# Altium footprint library CeBOT.PcbLib: 20 footprints (part 2 of 2)
Each footprint in its own frame and in the unit in brackets; x right, y up, seen from the top. Pads: shape width x height; smd on the part's side, far side on the other; paste and mask are expansions set on the pad; w line width, h text height; cw(c..) or ccw(c..) is an arc to the next point about the centre after c.
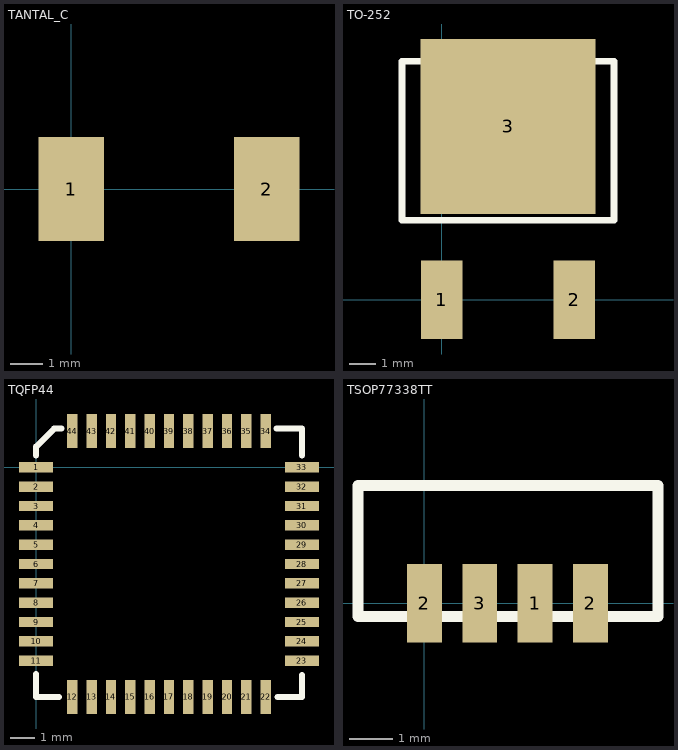
[diagram p1: the footprints below, top view; thin cyan lines are the x and y axes]

## TANTAL_C [mm]
pads (2):
  rect 2x3.2 smd: 1(0,0) 2(6,0)
3D body: height 2.22, standoff -0.47, extent -0.045,-1.6 6.141,1.605

## TO-252 [mm]
pads (3):
  rect 1.6x3 smd: 1(0,0) 2(5.08,0)
  rect 6.7x6.7 smd: 3(2.54,6.65)
Top Overlay:
  lines w0.254: -1.524,3.048 -1.524,9.144 6.604,9.144 6.604,3.048 -1.524,3.048
3D body: height 2.3, standoff -0.01, extent -0.738,-0.151 5.842,9.549

## TQFP44 [mil]
pads (44):
  rect 55.63x17 smd: 1(0,0) 2(0,-31.5) 3(0,-63) 4(0,-94.5) 5(0,-125.98) 6(0,-157.5) 7(0,-189) 8(0,-220.5) 9(0,-252) 10(0,-283.5) 11(0,-315) 23(433.07,-315) 24(433.07,-283.5) 25(433.07,-252) 26(433.07,-220.5) 27(433.07,-189) 28(433.07,-157.5) 29(433.07,-126) 30(433.07,-94.5) 31(433.07,-63) 32(433.07,-31.5) 33(433.07,0)
  rect 17x55.63 smd: 12(59.03,-374.02) 13(90.53,-374.02) 14(122.03,-374.02) 15(153.53,-374.02) 16(185.03,-374.02) 17(216.53,-374.02) 18(248.03,-374.02) 19(279.54,-374.02) 20(311.04,-374.02) 21(342.54,-374.02) 22(374.04,-374.02) 34(374.04,59.05) 35(342.54,59.05) 36(311.04,59.05) 37(279.54,59.05) 38(248.03,59.05) 39(216.53,59.05) 40(185.03,59.05) 41(153.53,59.05) 42(122.03,59.05) 43(90.53,59.05) 44(59.03,59.05)
Top Overlay:
  lines w10: 0,-336.61 0,-374.02 37.4,-374.02 ; 0,19.68 0,33.47 ; 39.37,62.99 29.53,62.99 ; 41.34,62.99 29.53,62.99 ; 391.73,62.99 433.07,62.99 433.07,19.68 ; 393.7,-374.02 433.07,-374.02 433.07,-338.58 ; 0,33.47 29.53,62.99 ; 0,33.47 29.53,62.99
3D body: height 39.37, standoff -5.91, extent -20,-394.4 453.4,79

## TSOP77338TT [mm]
pads (4):
  rect 0.8x1.8 smd: 1(2.54,0) 2(0,0) 2(3.81,0) 3(1.27,0)
Top Overlay:
  lines w0.254: 5.359,2.692 5.359,-0.305 -1.525,-0.305 -1.524,2.7 5.36,2.7
3D body: height 4.91, standoff -0.4, extent -3.175,-0.749 6.731,3.556